# EAGLE library part A3967SLB-T (library Allegro_By_element14_Batch_1)
Microstepping Driver with Translator
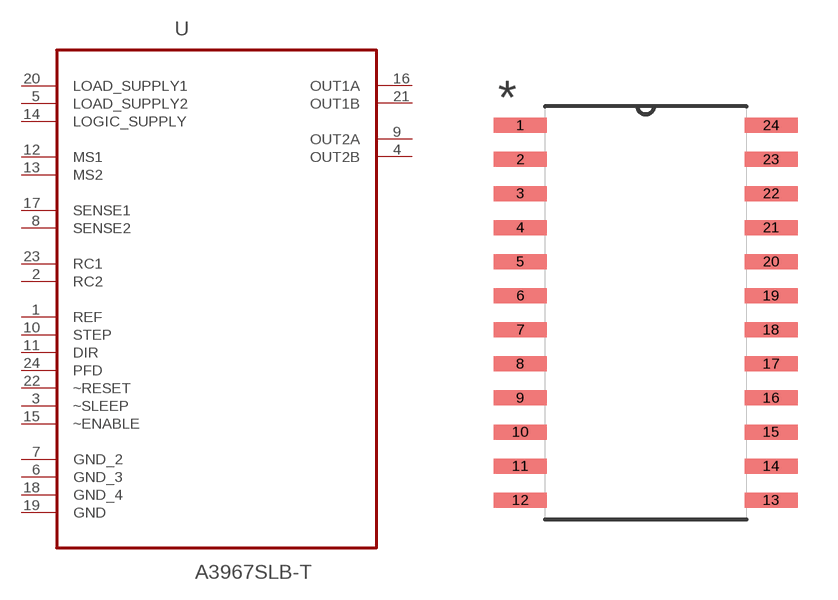
[diagram p3: symbol with the pads of SOIC127P1030X265-24N; footprint SOIC127P1030X265-24N]

Designator prefix U

## A3967SLB-T (MPN: A3967SLB-T; OC_FARNELL: 1521715; OC_NEWARK: -; PACKAGE: SOIC-24; SUPPLIER: ALLEGRO MICROSYSTEMS)  [SOIC127P1030X265-24N]
1  REF  in
2  RC2  in
3  ~SLEEP  in
4  OUT2B  out
5  LOAD_SUPPLY2  pwr
6  GND_3  pas
7  GND_2  pas
8  SENSE2  in
9  OUT2A  out
10  STEP  in
11  DIR  in
12  MS1  in
13  MS2  in
14  LOGIC_SUPPLY  in
15  ~ENABLE  in
16  OUT1A  out
17  SENSE1  in
18  GND_4  pas
19  GND  pas
20  LOAD_SUPPLY1  pwr
21  OUT1B  out
22  ~RESET  in
23  RC1  in
24  PFD  in

## Footprint SOIC127P1030X265-24N (pad centres in mm)
smd 1.981 x 0.559: 1 -4.674,6.985; 2 -4.674,5.715; 3 -4.674,4.445; 4 -4.674,3.175; 5 -4.674,1.905; 6 -4.674,0.635; 7 -4.674,-0.635; 8 -4.674,-1.905; 9 -4.674,-3.175; 10 -4.674,-4.445; 11 -4.674,-5.715; 12 -4.674,-6.985; 13 4.674,-6.985; 14 4.674,-5.715; 15 4.674,-4.445; 16 4.674,-3.175; 17 4.674,-1.905; 18 4.674,-0.635; 19 4.674,0.635; 20 4.674,1.905; 21 4.674,3.175; 22 4.674,4.445; 23 4.674,5.715; 24 4.674,6.985